# EAGLE library part SSW-102-02-S-T (library con-samtec)
THROUGH-HOLE .025" SQ POST SOCKET Source: Samtec SSW.pdf
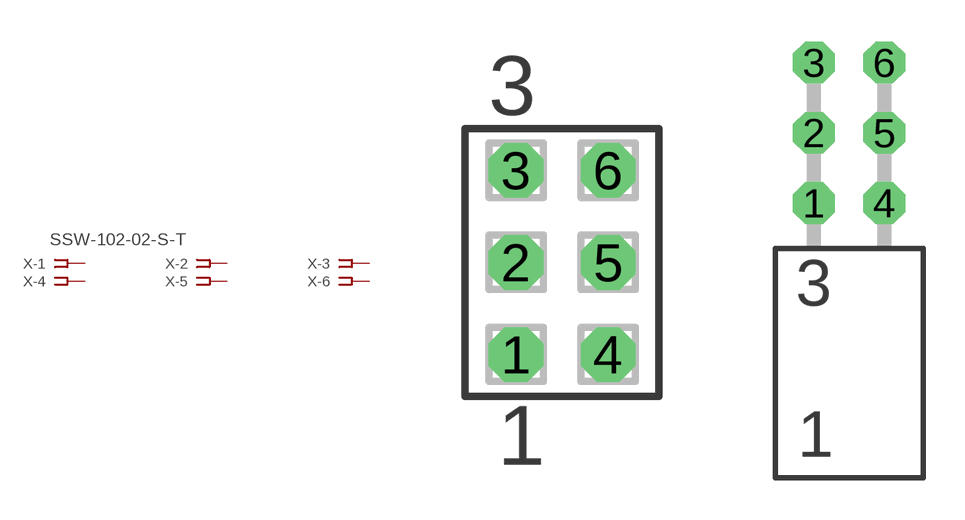
[diagram p54: symbol with the pads of SSW-102-02-S-T; footprints SSW-102-02-S-T, SSW-102-02-S-T-RA]

Designator prefix X; gates -1=FPINV -2=FPIN -3=FPIN -4=FPIN -5=FPIN -6=FPIN

## SSW-102-02-S-T  [SSW-102-02-S-T]
1  -1:1  pas
2  -2:1  pas
3  -3:1  pas
4  -4:1  pas
5  -5:1  pas
6  -6:1  pas

## SSW-102-02-S-TRA  [SSW-102-02-S-T-RA]
Pads as for SSW-102-02-S-T

## Footprint SSW-102-02-S-T (pad centres in mm)
THROUGH-HOLE .025" SQ POST SOCKET Source: Samtec SSW.pdf
drill 1 pad 1.5 octagon: 1 -1.27,-2.54; 2 -1.27,0; 3 -1.27,2.54; 4 1.27,-2.54; 5 1.27,0; 6 1.27,2.54

## Footprint SSW-102-02-S-T-RA (pad centres in mm)
THROUGH-HOLE .025" SQ POST SOCKET Source: Samtec SSW.pdf
drill 1 pad 1.5 octagon: 1 -1.27,1.524; 2 -1.27,4.064; 3 -1.27,6.604; 4 1.27,1.524; 5 1.27,4.064; 6 1.27,6.604